# Altium schematic symbol library kmilo17pet-Maxim_Sensors.SchLib: 1172 symbols (part 40 of 61)
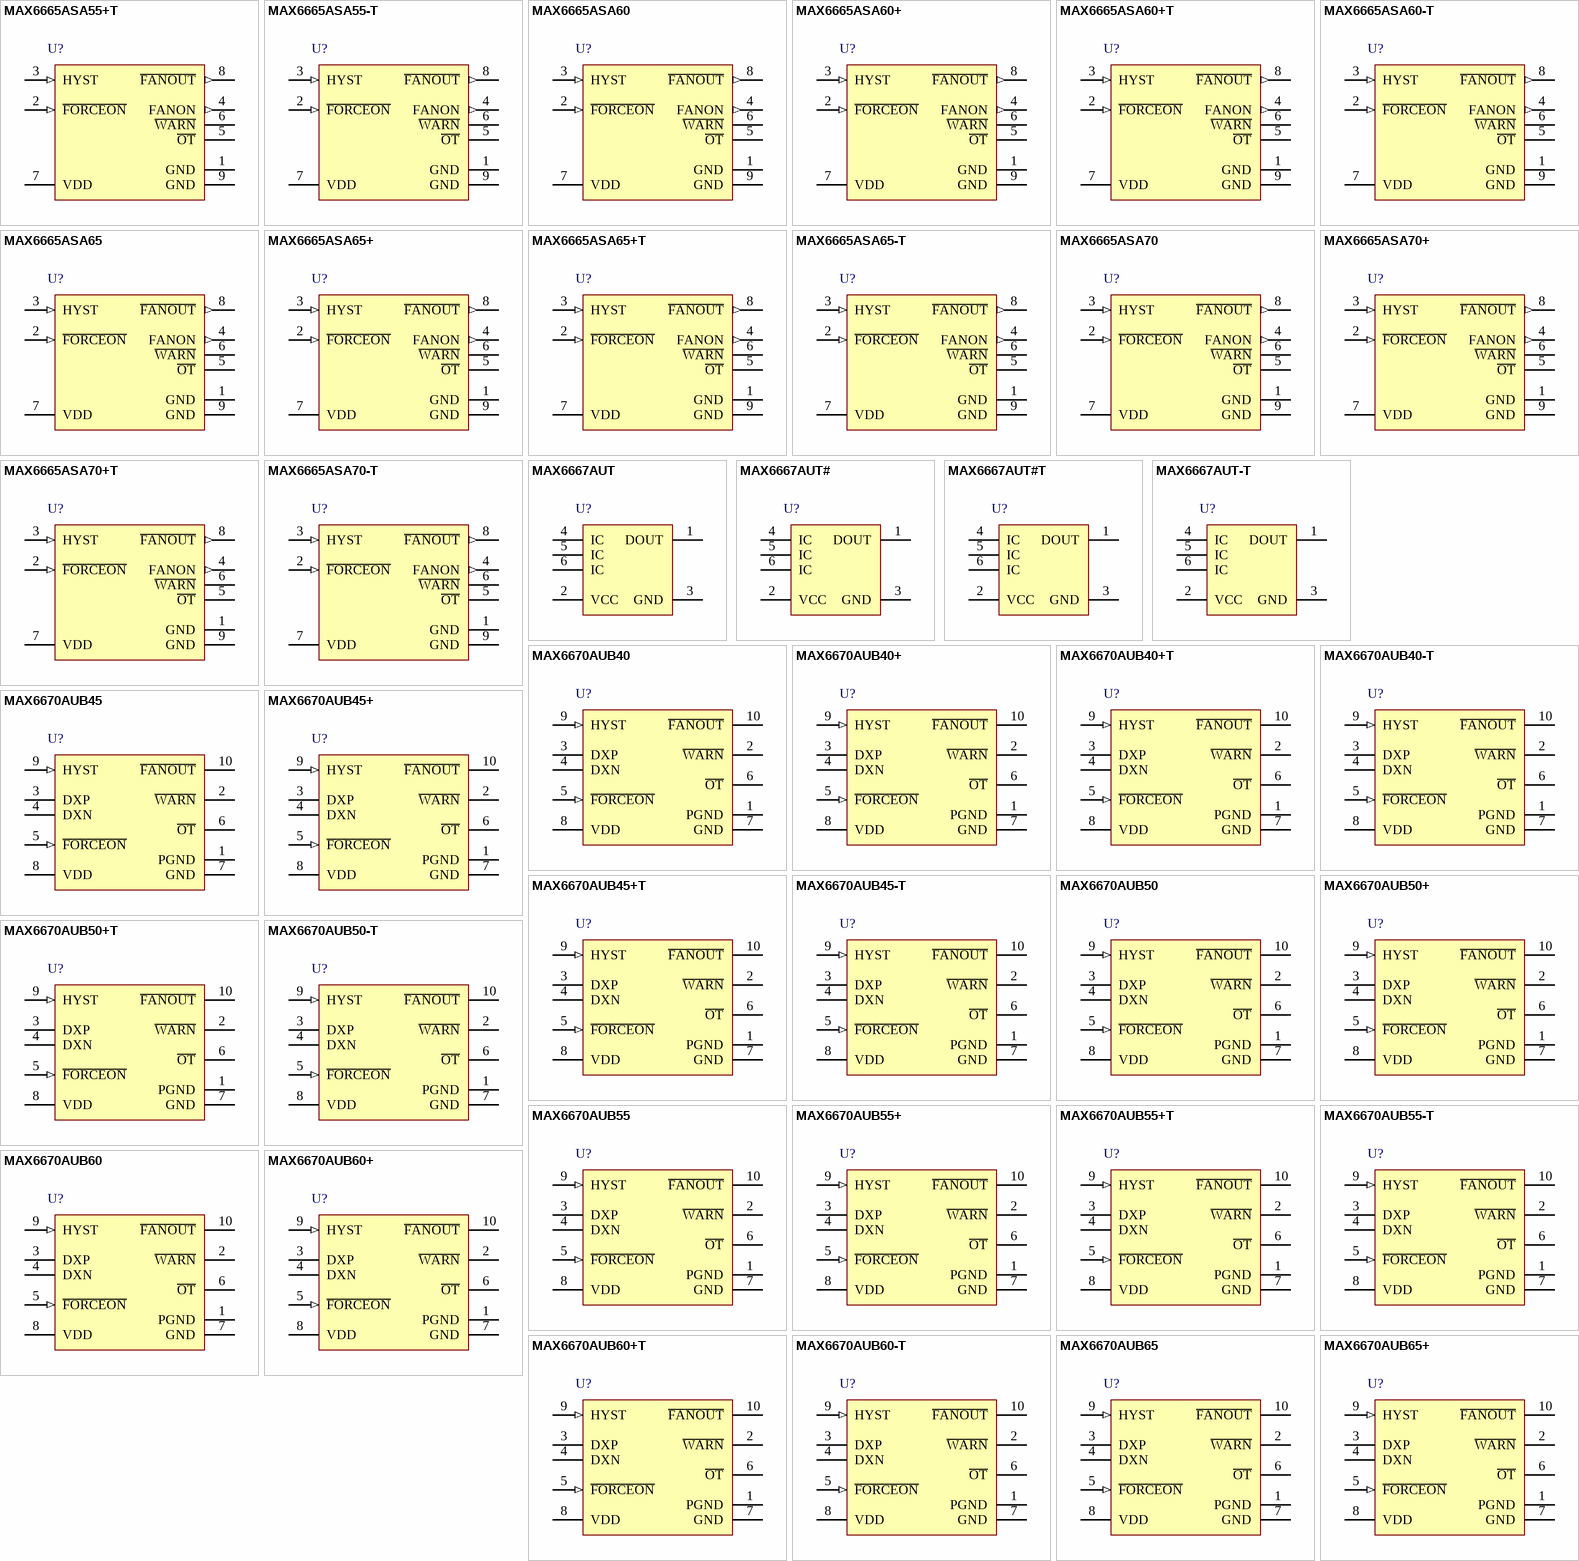
[diagram p72: symbols MAX6665ASA55+T to MAX6670AUB65+]

## MAX6670AUB50-T
designator U?
Remote Temperature Switch with Integrated Fan Driver, Bits Tempearture Resolution, -40 to 125 degC, 10-Pin SOP (U10CN-1), Tape and Reel; Generic Part Number: MAX6670; PartNumber: MAX6670AUB50-T; Fan Cntrl.: Linear; Fan Controller Functions: Temperature Switch/Temperature Comparator; Interface: Logic; DatasheetVersion: Rev. 2; PackageVersion: Rev. L, 07/2008; PackageReference: U10CN-1; PackageDescription: 10-Pin Micro-MAX, Thin Shrink Small-Outline (U10CN-1), Body 3 x 3 mm, Pitch 0.5 mm; Supplier 1: Mouser; Supplier Part Number 1: N/A; Packing: Tape and Reel; Mounting Technology: Surface Mount; Code_JEDEC: MO-187; ComponentLink1Description: Manufacturer URL; ComponentLink1URL: http://www.maximintegrated.com/; ComponentLink2Description: Datasheet; ComponentLink2URL: http://datasheets.maximintegrated.com/en/ds/MAX6668-MAX6670.pdf; ComponentLink3Description: Package Specification; ComponentLink3URL: http://pdfserv.maximintegrated.com/package_dwgs/21-0061.PDF
footprint MAXM-U10CN-1_N (SOP, 10-Leads, Body 3x3mm, Pitch 0.5mm, IPC Medium Density)
footprint MAXM-U10CN-1_L (SOP, 10-Leads, Body 3x3mm, Pitch 0.5mm, IPC High Density)
footprint MAXM-U10CN-1_M (SOP, 10-Leads, Body 3x3mm, Pitch 0.5mm, IPC Low Density)
pins: 1 PGND (power) "Power Ground. PGND is the power ground for the F\A\N\O\U\T\ power MOSFET switch.", 2 ~{WARN} (oc) "Temperature Warning Output. W\A\R\N\ is an open-drain output that goes low when the sensed junction temperature is 15degreesC higher than the fan trip threshold", 3 DXP "Current Source Positive Input. Connect to the anode of the external diodeconnected transistor. Do not leave DXP floating. Connect a 2200pF capacitor between DXP and DXN for noise filtering.", 4 DXN "Current Sink Negative Input. Connect to the cathode of the external diodeconnected transistor. DXN is internally biased to a diode voltage drop.", 5 ~{FORCEON} (in) "Fan-Control Input. Drive F\O\R\C\E\O\N\ high for normal operation. Drive F\O\R\C\E\O\N\ low to force fan on.", 6 ~{OT} (oc) "Overtemperature Output. O\T\ is an open-drain output that goes low when the sensed junction temperature is 30degC higher than the fan trip threshold.", 7 GND (power) "Ground", 8 VDD (power) "Positive Power Supply", 9 HYST (in) "Hysteresis Control Input. HYST is a three-level logic input for controlling the fandrive comparator’s hysteresis. Connect HYST to GND for 4degreesC hysteresis, to VDD for 12degreesC hysteresis, or leave floating for (See Datasheet)", 10 ~{FANOUT} (oc) "Fan-Drive Output. F\A\N\O\U\T\ is an open-drain power MOSFET that sinks up to 250mA current to turn on the fan when the sensed temperature exceeds the fan trip threshold or the fan is forced on by driving F\O\R\C\E\O\N\ low."

## MAX6670AUB55
designator U?
Remote Temperature Switch with Integrated Fan Driver, Bits Tempearture Resolution, -40 to 125 degC, 10-Pin SOP (U10CN-1); Generic Part Number: MAX6670; PartNumber: MAX6670AUB55; Fan Cntrl.: Linear; Fan Controller Functions: Temperature Switch/Temperature Comparator; Interface: Logic; DatasheetVersion: Rev. 2; PackageVersion: Rev. L, 07/2008; PackageReference: U10CN-1; PackageDescription: 10-Pin Micro-MAX, Thin Shrink Small-Outline (U10CN-1), Body 3 x 3 mm, Pitch 0.5 mm; Supplier 1: Mouser; Supplier Part Number 1: N/A; Mounting Technology: Surface Mount; Code_JEDEC: MO-187; ComponentLink1Description: Manufacturer URL; ComponentLink1URL: http://www.maximintegrated.com/; ComponentLink2Description: Datasheet; ComponentLink2URL: http://datasheets.maximintegrated.com/en/ds/MAX6668-MAX6670.pdf; ComponentLink3Description: Package Specification; ComponentLink3URL: http://pdfserv.maximintegrated.com/package_dwgs/21-0061.PDF
footprint MAXM-U10CN-1_N (SOP, 10-Leads, Body 3x3mm, Pitch 0.5mm, IPC Medium Density)
footprint MAXM-U10CN-1_L (SOP, 10-Leads, Body 3x3mm, Pitch 0.5mm, IPC High Density)
footprint MAXM-U10CN-1_M (SOP, 10-Leads, Body 3x3mm, Pitch 0.5mm, IPC Low Density)
pins: 1 PGND (power) "Power Ground. PGND is the power ground for the F\A\N\O\U\T\ power MOSFET switch.", 2 ~{WARN} (oc) "Temperature Warning Output. W\A\R\N\ is an open-drain output that goes low when the sensed junction temperature is 15degreesC higher than the fan trip threshold", 3 DXP "Current Source Positive Input. Connect to the anode of the external diodeconnected transistor. Do not leave DXP floating. Connect a 2200pF capacitor between DXP and DXN for noise filtering.", 4 DXN "Current Sink Negative Input. Connect to the cathode of the external diodeconnected transistor. DXN is internally biased to a diode voltage drop.", 5 ~{FORCEON} (in) "Fan-Control Input. Drive F\O\R\C\E\O\N\ high for normal operation. Drive F\O\R\C\E\O\N\ low to force fan on.", 6 ~{OT} (oc) "Overtemperature Output. O\T\ is an open-drain output that goes low when the sensed junction temperature is 30degC higher than the fan trip threshold.", 7 GND (power) "Ground", 8 VDD (power) "Positive Power Supply", 9 HYST (in) "Hysteresis Control Input. HYST is a three-level logic input for controlling the fandrive comparator’s hysteresis. Connect HYST to GND for 4degreesC hysteresis, to VDD for 12degreesC hysteresis, or leave floating for (See Datasheet)", 10 ~{FANOUT} (oc) "Fan-Drive Output. F\A\N\O\U\T\ is an open-drain power MOSFET that sinks up to 250mA current to turn on the fan when the sensed temperature exceeds the fan trip threshold or the fan is forced on by driving F\O\R\C\E\O\N\ low."

## MAX6670AUB55+
designator U?
Remote Temperature Switch with Integrated Fan Driver, Bits Tempearture Resolution, -40 to 125 degC, 10-Pin SOP (U10CN+1), Pb-Free; Generic Part Number: MAX6670; PartNumber: MAX6670AUB55+; Fan Cntrl.: Linear; Fan Controller Functions: Temperature Switch/Temperature Comparator; Interface: Logic; DatasheetVersion: Rev. 2; PackageVersion: Rev. L, 07/2008; PackageReference: U10CN+1; PackageDescription: 10-Pin Micro-MAX, Thin Shrink Small-Outline (U10CN+1), Body 3 x 3 mm, Pitch 0.5 mm; Supplier 1: Digi-Key; Supplier Part Number 1: MAX6670AUB55+-ND; Supplier 2: Mouser; Supplier Part Number 2: 700-MAX6670AUB55; Mounting Technology: Surface Mount; Code_JEDEC: MO-187; ComponentLink1Description: Manufacturer URL; ComponentLink1URL: http://www.maximintegrated.com/; ComponentLink2Description: Datasheet; ComponentLink2URL: http://datasheets.maximintegrated.com/en/ds/MAX6668-MAX6670.pdf; ComponentLink3Description: Package Specification; ComponentLink3URL: http://pdfserv.maximintegrated.com/package_dwgs/21-0061.PDF
footprint MAXM-U10CN+1_N (SOP, 10-Leads, Body 3x3mm, Pitch 0.5mm, IPC Medium Density)
footprint MAXM-U10CN+1_L (SOP, 10-Leads, Body 3x3mm, Pitch 0.5mm, IPC High Density)
footprint MAXM-U10CN+1_M (SOP, 10-Leads, Body 3x3mm, Pitch 0.5mm, IPC Low Density)
pins: 1 PGND (power) "Power Ground. PGND is the power ground for the F\A\N\O\U\T\ power MOSFET switch.", 2 ~{WARN} (oc) "Temperature Warning Output. W\A\R\N\ is an open-drain output that goes low when the sensed junction temperature is 15degreesC higher than the fan trip threshold", 3 DXP "Current Source Positive Input. Connect to the anode of the external diodeconnected transistor. Do not leave DXP floating. Connect a 2200pF capacitor between DXP and DXN for noise filtering.", 4 DXN "Current Sink Negative Input. Connect to the cathode of the external diodeconnected transistor. DXN is internally biased to a diode voltage drop.", 5 ~{FORCEON} (in) "Fan-Control Input. Drive F\O\R\C\E\O\N\ high for normal operation. Drive F\O\R\C\E\O\N\ low to force fan on.", 6 ~{OT} (oc) "Overtemperature Output. O\T\ is an open-drain output that goes low when the sensed junction temperature is 30degC higher than the fan trip threshold.", 7 GND (power) "Ground", 8 VDD (power) "Positive Power Supply", 9 HYST (in) "Hysteresis Control Input. HYST is a three-level logic input for controlling the fandrive comparator’s hysteresis. Connect HYST to GND for 4degreesC hysteresis, to VDD for 12degreesC hysteresis, or leave floating for (See Datasheet)", 10 ~{FANOUT} (oc) "Fan-Drive Output. F\A\N\O\U\T\ is an open-drain power MOSFET that sinks up to 250mA current to turn on the fan when the sensed temperature exceeds the fan trip threshold or the fan is forced on by driving F\O\R\C\E\O\N\ low."

## MAX6670AUB55+T
designator U?
Remote Temperature Switch with Integrated Fan Driver, Bits Tempearture Resolution, -40 to 125 degC, 10-Pin SOP (U10CN+1), Pb-Free, Tape and Reel; Generic Part Number: MAX6670; PartNumber: MAX6670AUB55+T; Fan Cntrl.: Linear; Fan Controller Functions: Temperature Switch/Temperature Comparator; Interface: Logic; DatasheetVersion: Rev. 2; PackageVersion: Rev. L, 07/2008; PackageReference: U10CN+1; PackageDescription: 10-Pin Micro-MAX, Thin Shrink Small-Outline (U10CN+1), Body 3 x 3 mm, Pitch 0.5 mm; Supplier 1: Digi-Key; Supplier Part Number 1: MAX6670AUB55+T-ND; Supplier 2: Mouser; Supplier Part Number 2: 700-MAX6670AUB55T; Packing: Tape and Reel; Mounting Technology: Surface Mount; Code_JEDEC: MO-187; ComponentLink1Description: Manufacturer URL; ComponentLink1URL: http://www.maximintegrated.com/; ComponentLink2Description: Datasheet; ComponentLink2URL: http://datasheets.maximintegrated.com/en/ds/MAX6668-MAX6670.pdf; ComponentLink3Description: Package Specification; ComponentLink3URL: http://pdfserv.maximintegrated.com/package_dwgs/21-0061.PDF
footprint MAXM-U10CN+1_N (SOP, 10-Leads, Body 3x3mm, Pitch 0.5mm, IPC Medium Density)
footprint MAXM-U10CN+1_L (SOP, 10-Leads, Body 3x3mm, Pitch 0.5mm, IPC High Density)
footprint MAXM-U10CN+1_M (SOP, 10-Leads, Body 3x3mm, Pitch 0.5mm, IPC Low Density)
pins: 1 PGND (power) "Power Ground. PGND is the power ground for the F\A\N\O\U\T\ power MOSFET switch.", 2 ~{WARN} (oc) "Temperature Warning Output. W\A\R\N\ is an open-drain output that goes low when the sensed junction temperature is 15degreesC higher than the fan trip threshold", 3 DXP "Current Source Positive Input. Connect to the anode of the external diodeconnected transistor. Do not leave DXP floating. Connect a 2200pF capacitor between DXP and DXN for noise filtering.", 4 DXN "Current Sink Negative Input. Connect to the cathode of the external diodeconnected transistor. DXN is internally biased to a diode voltage drop.", 5 ~{FORCEON} (in) "Fan-Control Input. Drive F\O\R\C\E\O\N\ high for normal operation. Drive F\O\R\C\E\O\N\ low to force fan on.", 6 ~{OT} (oc) "Overtemperature Output. O\T\ is an open-drain output that goes low when the sensed junction temperature is 30degC higher than the fan trip threshold.", 7 GND (power) "Ground", 8 VDD (power) "Positive Power Supply", 9 HYST (in) "Hysteresis Control Input. HYST is a three-level logic input for controlling the fandrive comparator’s hysteresis. Connect HYST to GND for 4degreesC hysteresis, to VDD for 12degreesC hysteresis, or leave floating for (See Datasheet)", 10 ~{FANOUT} (oc) "Fan-Drive Output. F\A\N\O\U\T\ is an open-drain power MOSFET that sinks up to 250mA current to turn on the fan when the sensed temperature exceeds the fan trip threshold or the fan is forced on by driving F\O\R\C\E\O\N\ low."

## MAX6670AUB55-T
designator U?
Remote Temperature Switch with Integrated Fan Driver, Bits Tempearture Resolution, -40 to 125 degC, 10-Pin SOP (U10CN-1), Tape and Reel; Generic Part Number: MAX6670; PartNumber: MAX6670AUB55-T; Fan Cntrl.: Linear; Fan Controller Functions: Temperature Switch/Temperature Comparator; Interface: Logic; DatasheetVersion: Rev. 2; PackageVersion: Rev. L, 07/2008; PackageReference: U10CN-1; PackageDescription: 10-Pin Micro-MAX, Thin Shrink Small-Outline (U10CN-1), Body 3 x 3 mm, Pitch 0.5 mm; Supplier 1: Mouser; Supplier Part Number 1: N/A; Packing: Tape and Reel; Mounting Technology: Surface Mount; Code_JEDEC: MO-187; ComponentLink1Description: Manufacturer URL; ComponentLink1URL: http://www.maximintegrated.com/; ComponentLink2Description: Datasheet; ComponentLink2URL: http://datasheets.maximintegrated.com/en/ds/MAX6668-MAX6670.pdf; ComponentLink3Description: Package Specification; ComponentLink3URL: http://pdfserv.maximintegrated.com/package_dwgs/21-0061.PDF
footprint MAXM-U10CN-1_N (SOP, 10-Leads, Body 3x3mm, Pitch 0.5mm, IPC Medium Density)
footprint MAXM-U10CN-1_L (SOP, 10-Leads, Body 3x3mm, Pitch 0.5mm, IPC High Density)
footprint MAXM-U10CN-1_M (SOP, 10-Leads, Body 3x3mm, Pitch 0.5mm, IPC Low Density)
pins: 1 PGND (power) "Power Ground. PGND is the power ground for the F\A\N\O\U\T\ power MOSFET switch.", 2 ~{WARN} (oc) "Temperature Warning Output. W\A\R\N\ is an open-drain output that goes low when the sensed junction temperature is 15degreesC higher than the fan trip threshold", 3 DXP "Current Source Positive Input. Connect to the anode of the external diodeconnected transistor. Do not leave DXP floating. Connect a 2200pF capacitor between DXP and DXN for noise filtering.", 4 DXN "Current Sink Negative Input. Connect to the cathode of the external diodeconnected transistor. DXN is internally biased to a diode voltage drop.", 5 ~{FORCEON} (in) "Fan-Control Input. Drive F\O\R\C\E\O\N\ high for normal operation. Drive F\O\R\C\E\O\N\ low to force fan on.", 6 ~{OT} (oc) "Overtemperature Output. O\T\ is an open-drain output that goes low when the sensed junction temperature is 30degC higher than the fan trip threshold.", 7 GND (power) "Ground", 8 VDD (power) "Positive Power Supply", 9 HYST (in) "Hysteresis Control Input. HYST is a three-level logic input for controlling the fandrive comparator’s hysteresis. Connect HYST to GND for 4degreesC hysteresis, to VDD for 12degreesC hysteresis, or leave floating for (See Datasheet)", 10 ~{FANOUT} (oc) "Fan-Drive Output. F\A\N\O\U\T\ is an open-drain power MOSFET that sinks up to 250mA current to turn on the fan when the sensed temperature exceeds the fan trip threshold or the fan is forced on by driving F\O\R\C\E\O\N\ low."

## MAX6670AUB60
designator U?
Remote Temperature Switch with Integrated Fan Driver, Bits Tempearture Resolution, -40 to 125 degC, 10-Pin SOP (U10CN-1); Generic Part Number: MAX6670; PartNumber: MAX6670AUB60; Fan Cntrl.: Linear; Fan Controller Functions: Temperature Switch/Temperature Comparator; Interface: Logic; DatasheetVersion: Rev. 2; PackageVersion: Rev. L, 07/2008; PackageReference: U10CN-1; PackageDescription: 10-Pin Micro-MAX, Thin Shrink Small-Outline (U10CN-1), Body 3 x 3 mm, Pitch 0.5 mm; Supplier 1: Mouser; Supplier Part Number 1: N/A; Mounting Technology: Surface Mount; Code_JEDEC: MO-187; ComponentLink1Description: Manufacturer URL; ComponentLink1URL: http://www.maximintegrated.com/; ComponentLink2Description: Datasheet; ComponentLink2URL: http://datasheets.maximintegrated.com/en/ds/MAX6668-MAX6670.pdf; ComponentLink3Description: Package Specification; ComponentLink3URL: http://pdfserv.maximintegrated.com/package_dwgs/21-0061.PDF
footprint MAXM-U10CN-1_N (SOP, 10-Leads, Body 3x3mm, Pitch 0.5mm, IPC Medium Density)
footprint MAXM-U10CN-1_L (SOP, 10-Leads, Body 3x3mm, Pitch 0.5mm, IPC High Density)
footprint MAXM-U10CN-1_M (SOP, 10-Leads, Body 3x3mm, Pitch 0.5mm, IPC Low Density)
pins: 1 PGND (power) "Power Ground. PGND is the power ground for the F\A\N\O\U\T\ power MOSFET switch.", 2 ~{WARN} (oc) "Temperature Warning Output. W\A\R\N\ is an open-drain output that goes low when the sensed junction temperature is 15degreesC higher than the fan trip threshold", 3 DXP "Current Source Positive Input. Connect to the anode of the external diodeconnected transistor. Do not leave DXP floating. Connect a 2200pF capacitor between DXP and DXN for noise filtering.", 4 DXN "Current Sink Negative Input. Connect to the cathode of the external diodeconnected transistor. DXN is internally biased to a diode voltage drop.", 5 ~{FORCEON} (in) "Fan-Control Input. Drive F\O\R\C\E\O\N\ high for normal operation. Drive F\O\R\C\E\O\N\ low to force fan on.", 6 ~{OT} (oc) "Overtemperature Output. O\T\ is an open-drain output that goes low when the sensed junction temperature is 30degC higher than the fan trip threshold.", 7 GND (power) "Ground", 8 VDD (power) "Positive Power Supply", 9 HYST (in) "Hysteresis Control Input. HYST is a three-level logic input for controlling the fandrive comparator’s hysteresis. Connect HYST to GND for 4degreesC hysteresis, to VDD for 12degreesC hysteresis, or leave floating for (See Datasheet)", 10 ~{FANOUT} (oc) "Fan-Drive Output. F\A\N\O\U\T\ is an open-drain power MOSFET that sinks up to 250mA current to turn on the fan when the sensed temperature exceeds the fan trip threshold or the fan is forced on by driving F\O\R\C\E\O\N\ low."

## MAX6670AUB60+
designator U?
Remote Temperature Switch with Integrated Fan Driver, Bits Tempearture Resolution, -40 to 125 degC, 10-Pin SOP (U10CN+1), Pb-Free; Generic Part Number: MAX6670; PartNumber: MAX6670AUB60+; Fan Cntrl.: Linear; Fan Controller Functions: Temperature Switch/Temperature Comparator; Interface: Logic; DatasheetVersion: Rev. 2; PackageVersion: Rev. L, 07/2008; PackageReference: U10CN+1; PackageDescription: 10-Pin Micro-MAX, Thin Shrink Small-Outline (U10CN+1), Body 3 x 3 mm, Pitch 0.5 mm; Supplier 1: Digi-Key; Supplier Part Number 1: MAX6670AUB60+-ND; Supplier 2: Mouser; Supplier Part Number 2: 700-MAX6670AUB60; Mounting Technology: Surface Mount; Code_JEDEC: MO-187; ComponentLink1Description: Manufacturer URL; ComponentLink1URL: http://www.maximintegrated.com/; ComponentLink2Description: Datasheet; ComponentLink2URL: http://datasheets.maximintegrated.com/en/ds/MAX6668-MAX6670.pdf; ComponentLink3Description: Package Specification; ComponentLink3URL: http://pdfserv.maximintegrated.com/package_dwgs/21-0061.PDF
footprint MAXM-U10CN+1_N (SOP, 10-Leads, Body 3x3mm, Pitch 0.5mm, IPC Medium Density)
footprint MAXM-U10CN+1_L (SOP, 10-Leads, Body 3x3mm, Pitch 0.5mm, IPC High Density)
footprint MAXM-U10CN+1_M (SOP, 10-Leads, Body 3x3mm, Pitch 0.5mm, IPC Low Density)
pins: 1 PGND (power) "Power Ground. PGND is the power ground for the F\A\N\O\U\T\ power MOSFET switch.", 2 ~{WARN} (oc) "Temperature Warning Output. W\A\R\N\ is an open-drain output that goes low when the sensed junction temperature is 15degreesC higher than the fan trip threshold", 3 DXP "Current Source Positive Input. Connect to the anode of the external diodeconnected transistor. Do not leave DXP floating. Connect a 2200pF capacitor between DXP and DXN for noise filtering.", 4 DXN "Current Sink Negative Input. Connect to the cathode of the external diodeconnected transistor. DXN is internally biased to a diode voltage drop.", 5 ~{FORCEON} (in) "Fan-Control Input. Drive F\O\R\C\E\O\N\ high for normal operation. Drive F\O\R\C\E\O\N\ low to force fan on.", 6 ~{OT} (oc) "Overtemperature Output. O\T\ is an open-drain output that goes low when the sensed junction temperature is 30degC higher than the fan trip threshold.", 7 GND (power) "Ground", 8 VDD (power) "Positive Power Supply", 9 HYST (in) "Hysteresis Control Input. HYST is a three-level logic input for controlling the fandrive comparator’s hysteresis. Connect HYST to GND for 4degreesC hysteresis, to VDD for 12degreesC hysteresis, or leave floating for (See Datasheet)", 10 ~{FANOUT} (oc) "Fan-Drive Output. F\A\N\O\U\T\ is an open-drain power MOSFET that sinks up to 250mA current to turn on the fan when the sensed temperature exceeds the fan trip threshold or the fan is forced on by driving F\O\R\C\E\O\N\ low."

## MAX6670AUB60+T
designator U?
Remote Temperature Switch with Integrated Fan Driver, Bits Tempearture Resolution, -40 to 125 degC, 10-Pin SOP (U10CN+1), Pb-Free, Tape and Reel; Generic Part Number: MAX6670; PartNumber: MAX6670AUB60+T; Fan Cntrl.: Linear; Fan Controller Functions: Temperature Switch/Temperature Comparator; Interface: Logic; DatasheetVersion: Rev. 2; PackageVersion: Rev. L, 07/2008; PackageReference: U10CN+1; PackageDescription: 10-Pin Micro-MAX, Thin Shrink Small-Outline (U10CN+1), Body 3 x 3 mm, Pitch 0.5 mm; Supplier 1: Digi-Key; Supplier Part Number 1: MAX6670AUB60+T-ND; Supplier 2: Mouser; Supplier Part Number 2: 700-MAX6670AUB60T; Packing: Tape and Reel; Mounting Technology: Surface Mount; Code_JEDEC: MO-187; ComponentLink1Description: Manufacturer URL; ComponentLink1URL: http://www.maximintegrated.com/; ComponentLink2Description: Datasheet; ComponentLink2URL: http://datasheets.maximintegrated.com/en/ds/MAX6668-MAX6670.pdf; ComponentLink3Description: Package Specification; ComponentLink3URL: http://pdfserv.maximintegrated.com/package_dwgs/21-0061.PDF
footprint MAXM-U10CN+1_N (SOP, 10-Leads, Body 3x3mm, Pitch 0.5mm, IPC Medium Density)
footprint MAXM-U10CN+1_L (SOP, 10-Leads, Body 3x3mm, Pitch 0.5mm, IPC High Density)
footprint MAXM-U10CN+1_M (SOP, 10-Leads, Body 3x3mm, Pitch 0.5mm, IPC Low Density)
pins: 1 PGND (power) "Power Ground. PGND is the power ground for the F\A\N\O\U\T\ power MOSFET switch.", 2 ~{WARN} (oc) "Temperature Warning Output. W\A\R\N\ is an open-drain output that goes low when the sensed junction temperature is 15degreesC higher than the fan trip threshold", 3 DXP "Current Source Positive Input. Connect to the anode of the external diodeconnected transistor. Do not leave DXP floating. Connect a 2200pF capacitor between DXP and DXN for noise filtering.", 4 DXN "Current Sink Negative Input. Connect to the cathode of the external diodeconnected transistor. DXN is internally biased to a diode voltage drop.", 5 ~{FORCEON} (in) "Fan-Control Input. Drive F\O\R\C\E\O\N\ high for normal operation. Drive F\O\R\C\E\O\N\ low to force fan on.", 6 ~{OT} (oc) "Overtemperature Output. O\T\ is an open-drain output that goes low when the sensed junction temperature is 30degC higher than the fan trip threshold.", 7 GND (power) "Ground", 8 VDD (power) "Positive Power Supply", 9 HYST (in) "Hysteresis Control Input. HYST is a three-level logic input for controlling the fandrive comparator’s hysteresis. Connect HYST to GND for 4degreesC hysteresis, to VDD for 12degreesC hysteresis, or leave floating for (See Datasheet)", 10 ~{FANOUT} (oc) "Fan-Drive Output. F\A\N\O\U\T\ is an open-drain power MOSFET that sinks up to 250mA current to turn on the fan when the sensed temperature exceeds the fan trip threshold or the fan is forced on by driving F\O\R\C\E\O\N\ low."

## MAX6670AUB60-T
designator U?
Remote Temperature Switch with Integrated Fan Driver, Bits Tempearture Resolution, -40 to 125 degC, 10-Pin SOP (U10CN-1), Tape and Reel; Generic Part Number: MAX6670; PartNumber: MAX6670AUB60-T; Fan Cntrl.: Linear; Fan Controller Functions: Temperature Switch/Temperature Comparator; Interface: Logic; DatasheetVersion: Rev. 2; PackageVersion: Rev. L, 07/2008; PackageReference: U10CN-1; PackageDescription: 10-Pin Micro-MAX, Thin Shrink Small-Outline (U10CN-1), Body 3 x 3 mm, Pitch 0.5 mm; Supplier 1: Mouser; Supplier Part Number 1: N/A; Packing: Tape and Reel; Mounting Technology: Surface Mount; Code_JEDEC: MO-187; ComponentLink1Description: Manufacturer URL; ComponentLink1URL: http://www.maximintegrated.com/; ComponentLink2Description: Datasheet; ComponentLink2URL: http://datasheets.maximintegrated.com/en/ds/MAX6668-MAX6670.pdf; ComponentLink3Description: Package Specification; ComponentLink3URL: http://pdfserv.maximintegrated.com/package_dwgs/21-0061.PDF
footprint MAXM-U10CN-1_N (SOP, 10-Leads, Body 3x3mm, Pitch 0.5mm, IPC Medium Density)
footprint MAXM-U10CN-1_L (SOP, 10-Leads, Body 3x3mm, Pitch 0.5mm, IPC High Density)
footprint MAXM-U10CN-1_M (SOP, 10-Leads, Body 3x3mm, Pitch 0.5mm, IPC Low Density)
pins: 1 PGND (power) "Power Ground. PGND is the power ground for the F\A\N\O\U\T\ power MOSFET switch.", 2 ~{WARN} (oc) "Temperature Warning Output. W\A\R\N\ is an open-drain output that goes low when the sensed junction temperature is 15degreesC higher than the fan trip threshold", 3 DXP "Current Source Positive Input. Connect to the anode of the external diodeconnected transistor. Do not leave DXP floating. Connect a 2200pF capacitor between DXP and DXN for noise filtering.", 4 DXN "Current Sink Negative Input. Connect to the cathode of the external diodeconnected transistor. DXN is internally biased to a diode voltage drop.", 5 ~{FORCEON} (in) "Fan-Control Input. Drive F\O\R\C\E\O\N\ high for normal operation. Drive F\O\R\C\E\O\N\ low to force fan on.", 6 ~{OT} (oc) "Overtemperature Output. O\T\ is an open-drain output that goes low when the sensed junction temperature is 30degC higher than the fan trip threshold.", 7 GND (power) "Ground", 8 VDD (power) "Positive Power Supply", 9 HYST (in) "Hysteresis Control Input. HYST is a three-level logic input for controlling the fandrive comparator’s hysteresis. Connect HYST to GND for 4degreesC hysteresis, to VDD for 12degreesC hysteresis, or leave floating for (See Datasheet)", 10 ~{FANOUT} (oc) "Fan-Drive Output. F\A\N\O\U\T\ is an open-drain power MOSFET that sinks up to 250mA current to turn on the fan when the sensed temperature exceeds the fan trip threshold or the fan is forced on by driving F\O\R\C\E\O\N\ low."

## MAX6670AUB65
designator U?
Remote Temperature Switch with Integrated Fan Driver, Bits Tempearture Resolution, -40 to 125 degC, 10-Pin SOP (U10CN-1); Generic Part Number: MAX6670; PartNumber: MAX6670AUB65; Fan Cntrl.: Linear; Fan Controller Functions: Temperature Switch/Temperature Comparator; Interface: Logic; DatasheetVersion: Rev. 2; PackageVersion: Rev. L, 07/2008; PackageReference: U10CN-1; PackageDescription: 10-Pin Micro-MAX, Thin Shrink Small-Outline (U10CN-1), Body 3 x 3 mm, Pitch 0.5 mm; Supplier 1: Mouser; Supplier Part Number 1: N/A; Mounting Technology: Surface Mount; Code_JEDEC: MO-187; ComponentLink1Description: Manufacturer URL; ComponentLink1URL: http://www.maximintegrated.com/; ComponentLink2Description: Datasheet; ComponentLink2URL: http://datasheets.maximintegrated.com/en/ds/MAX6668-MAX6670.pdf; ComponentLink3Description: Package Specification; ComponentLink3URL: http://pdfserv.maximintegrated.com/package_dwgs/21-0061.PDF
footprint MAXM-U10CN-1_N (SOP, 10-Leads, Body 3x3mm, Pitch 0.5mm, IPC Medium Density)
footprint MAXM-U10CN-1_L (SOP, 10-Leads, Body 3x3mm, Pitch 0.5mm, IPC High Density)
footprint MAXM-U10CN-1_M (SOP, 10-Leads, Body 3x3mm, Pitch 0.5mm, IPC Low Density)
pins: 1 PGND (power) "Power Ground. PGND is the power ground for the F\A\N\O\U\T\ power MOSFET switch.", 2 ~{WARN} (oc) "Temperature Warning Output. W\A\R\N\ is an open-drain output that goes low when the sensed junction temperature is 15degreesC higher than the fan trip threshold", 3 DXP "Current Source Positive Input. Connect to the anode of the external diodeconnected transistor. Do not leave DXP floating. Connect a 2200pF capacitor between DXP and DXN for noise filtering.", 4 DXN "Current Sink Negative Input. Connect to the cathode of the external diodeconnected transistor. DXN is internally biased to a diode voltage drop.", 5 ~{FORCEON} (in) "Fan-Control Input. Drive F\O\R\C\E\O\N\ high for normal operation. Drive F\O\R\C\E\O\N\ low to force fan on.", 6 ~{OT} (oc) "Overtemperature Output. O\T\ is an open-drain output that goes low when the sensed junction temperature is 30degC higher than the fan trip threshold.", 7 GND (power) "Ground", 8 VDD (power) "Positive Power Supply", 9 HYST (in) "Hysteresis Control Input. HYST is a three-level logic input for controlling the fandrive comparator’s hysteresis. Connect HYST to GND for 4degreesC hysteresis, to VDD for 12degreesC hysteresis, or leave floating for (See Datasheet)", 10 ~{FANOUT} (oc) "Fan-Drive Output. F\A\N\O\U\T\ is an open-drain power MOSFET that sinks up to 250mA current to turn on the fan when the sensed temperature exceeds the fan trip threshold or the fan is forced on by driving F\O\R\C\E\O\N\ low."

## MAX6670AUB65+
designator U?
Remote Temperature Switch with Integrated Fan Driver, Bits Tempearture Resolution, -40 to 125 degC, 10-Pin SOP (U10CN+1), Pb-Free; Generic Part Number: MAX6670; PartNumber: MAX6670AUB65+; Fan Cntrl.: Linear; Fan Controller Functions: Temperature Switch/Temperature Comparator; Interface: Logic; DatasheetVersion: Rev. 2; PackageVersion: Rev. L, 07/2008; PackageReference: U10CN+1; PackageDescription: 10-Pin Micro-MAX, Thin Shrink Small-Outline (U10CN+1), Body 3 x 3 mm, Pitch 0.5 mm; Supplier 1: Digi-Key; Supplier Part Number 1: MAX6670AUB65+-ND; Supplier 2: Mouser; Supplier Part Number 2: 700-MAX6670AUB65; Mounting Technology: Surface Mount; Code_JEDEC: MO-187; ComponentLink1Description: Manufacturer URL; ComponentLink1URL: http://www.maximintegrated.com/; ComponentLink2Description: Datasheet; ComponentLink2URL: http://datasheets.maximintegrated.com/en/ds/MAX6668-MAX6670.pdf; ComponentLink3Description: Package Specification; ComponentLink3URL: http://pdfserv.maximintegrated.com/package_dwgs/21-0061.PDF
footprint MAXM-U10CN+1_N (SOP, 10-Leads, Body 3x3mm, Pitch 0.5mm, IPC Medium Density)
footprint MAXM-U10CN+1_L (SOP, 10-Leads, Body 3x3mm, Pitch 0.5mm, IPC High Density)
footprint MAXM-U10CN+1_M (SOP, 10-Leads, Body 3x3mm, Pitch 0.5mm, IPC Low Density)
pins: 1 PGND (power) "Power Ground. PGND is the power ground for the F\A\N\O\U\T\ power MOSFET switch.", 2 ~{WARN} (oc) "Temperature Warning Output. W\A\R\N\ is an open-drain output that goes low when the sensed junction temperature is 15degreesC higher than the fan trip threshold", 3 DXP "Current Source Positive Input. Connect to the anode of the external diodeconnected transistor. Do not leave DXP floating. Connect a 2200pF capacitor between DXP and DXN for noise filtering.", 4 DXN "Current Sink Negative Input. Connect to the cathode of the external diodeconnected transistor. DXN is internally biased to a diode voltage drop.", 5 ~{FORCEON} (in) "Fan-Control Input. Drive F\O\R\C\E\O\N\ high for normal operation. Drive F\O\R\C\E\O\N\ low to force fan on.", 6 ~{OT} (oc) "Overtemperature Output. O\T\ is an open-drain output that goes low when the sensed junction temperature is 30degC higher than the fan trip threshold.", 7 GND (power) "Ground", 8 VDD (power) "Positive Power Supply", 9 HYST (in) "Hysteresis Control Input. HYST is a three-level logic input for controlling the fandrive comparator’s hysteresis. Connect HYST to GND for 4degreesC hysteresis, to VDD for 12degreesC hysteresis, or leave floating for (See Datasheet)", 10 ~{FANOUT} (oc) "Fan-Drive Output. F\A\N\O\U\T\ is an open-drain power MOSFET that sinks up to 250mA current to turn on the fan when the sensed temperature exceeds the fan trip threshold or the fan is forced on by driving F\O\R\C\E\O\N\ low."

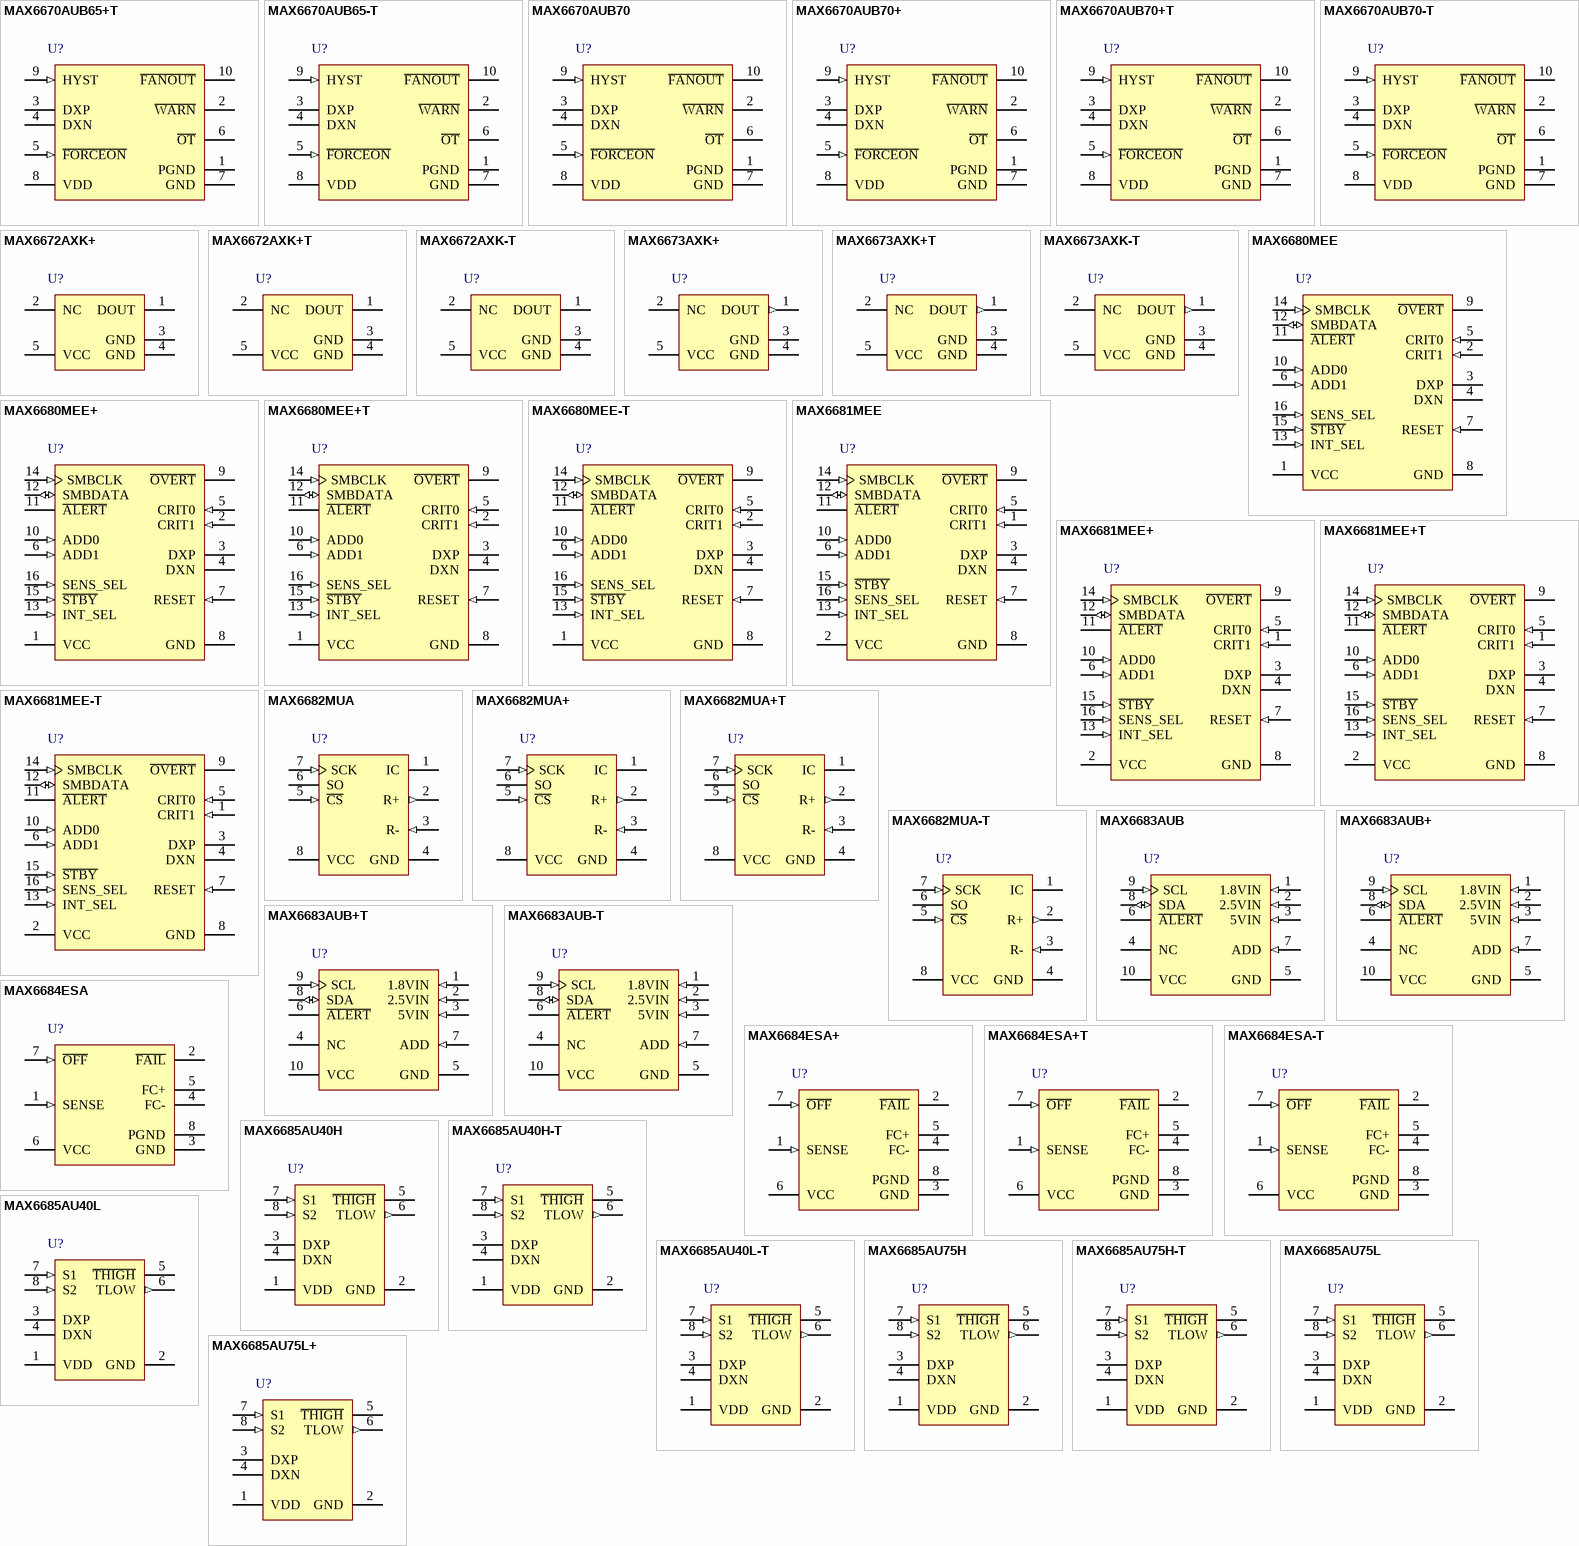
[diagram p23: symbols MAX6670AUB65+T to MAX6685AU75L+]

## MAX6670AUB65+T
designator U?
Remote Temperature Switch with Integrated Fan Driver, Bits Tempearture Resolution, -40 to 125 degC, 10-Pin SOP (U10CN+1), Pb-Free, Tape and Reel; Generic Part Number: MAX6670; PartNumber: MAX6670AUB65+T; Fan Cntrl.: Linear; Fan Controller Functions: Temperature Switch/Temperature Comparator; Interface: Logic; DatasheetVersion: Rev. 2; PackageVersion: Rev. L, 07/2008; PackageReference: U10CN+1; PackageDescription: 10-Pin Micro-MAX, Thin Shrink Small-Outline (U10CN+1), Body 3 x 3 mm, Pitch 0.5 mm; Supplier 1: Digi-Key; Supplier Part Number 1: MAX6670AUB65+T-ND; Supplier 2: Mouser; Supplier Part Number 2: 700-MAX6670AUB65T; Packing: Tape and Reel; Mounting Technology: Surface Mount; Code_JEDEC: MO-187; ComponentLink1Description: Manufacturer URL; ComponentLink1URL: http://www.maximintegrated.com/; ComponentLink2Description: Datasheet; ComponentLink2URL: http://datasheets.maximintegrated.com/en/ds/MAX6668-MAX6670.pdf; ComponentLink3Description: Package Specification; ComponentLink3URL: http://pdfserv.maximintegrated.com/package_dwgs/21-0061.PDF
footprint MAXM-U10CN+1_N (SOP, 10-Leads, Body 3x3mm, Pitch 0.5mm, IPC Medium Density)
footprint MAXM-U10CN+1_L (SOP, 10-Leads, Body 3x3mm, Pitch 0.5mm, IPC High Density)
footprint MAXM-U10CN+1_M (SOP, 10-Leads, Body 3x3mm, Pitch 0.5mm, IPC Low Density)
pins: 1 PGND (power) "Power Ground. PGND is the power ground for the F\A\N\O\U\T\ power MOSFET switch.", 2 ~{WARN} (oc) "Temperature Warning Output. W\A\R\N\ is an open-drain output that goes low when the sensed junction temperature is 15degreesC higher than the fan trip threshold", 3 DXP "Current Source Positive Input. Connect to the anode of the external diodeconnected transistor. Do not leave DXP floating. Connect a 2200pF capacitor between DXP and DXN for noise filtering.", 4 DXN "Current Sink Negative Input. Connect to the cathode of the external diodeconnected transistor. DXN is internally biased to a diode voltage drop.", 5 ~{FORCEON} (in) "Fan-Control Input. Drive F\O\R\C\E\O\N\ high for normal operation. Drive F\O\R\C\E\O\N\ low to force fan on.", 6 ~{OT} (oc) "Overtemperature Output. O\T\ is an open-drain output that goes low when the sensed junction temperature is 30degC higher than the fan trip threshold.", 7 GND (power) "Ground", 8 VDD (power) "Positive Power Supply", 9 HYST (in) "Hysteresis Control Input. HYST is a three-level logic input for controlling the fandrive comparator’s hysteresis. Connect HYST to GND for 4degreesC hysteresis, to VDD for 12degreesC hysteresis, or leave floating for (See Datasheet)", 10 ~{FANOUT} (oc) "Fan-Drive Output. F\A\N\O\U\T\ is an open-drain power MOSFET that sinks up to 250mA current to turn on the fan when the sensed temperature exceeds the fan trip threshold or the fan is forced on by driving F\O\R\C\E\O\N\ low."

## MAX6670AUB65-T
designator U?
Remote Temperature Switch with Integrated Fan Driver, Bits Tempearture Resolution, -40 to 125 degC, 10-Pin SOP (U10CN-1), Tape and Reel; Generic Part Number: MAX6670; PartNumber: MAX6670AUB65-T; Fan Cntrl.: Linear; Fan Controller Functions: Temperature Switch/Temperature Comparator; Interface: Logic; DatasheetVersion: Rev. 2; PackageVersion: Rev. L, 07/2008; PackageReference: U10CN-1; PackageDescription: 10-Pin Micro-MAX, Thin Shrink Small-Outline (U10CN-1), Body 3 x 3 mm, Pitch 0.5 mm; Supplier 1: Mouser; Supplier Part Number 1: N/A; Packing: Tape and Reel; Mounting Technology: Surface Mount; Code_JEDEC: MO-187; ComponentLink1Description: Manufacturer URL; ComponentLink1URL: http://www.maximintegrated.com/; ComponentLink2Description: Datasheet; ComponentLink2URL: http://datasheets.maximintegrated.com/en/ds/MAX6668-MAX6670.pdf; ComponentLink3Description: Package Specification; ComponentLink3URL: http://pdfserv.maximintegrated.com/package_dwgs/21-0061.PDF
footprint MAXM-U10CN-1_N (SOP, 10-Leads, Body 3x3mm, Pitch 0.5mm, IPC Medium Density)
footprint MAXM-U10CN-1_L (SOP, 10-Leads, Body 3x3mm, Pitch 0.5mm, IPC High Density)
footprint MAXM-U10CN-1_M (SOP, 10-Leads, Body 3x3mm, Pitch 0.5mm, IPC Low Density)
pins: 1 PGND (power) "Power Ground. PGND is the power ground for the F\A\N\O\U\T\ power MOSFET switch.", 2 ~{WARN} (oc) "Temperature Warning Output. W\A\R\N\ is an open-drain output that goes low when the sensed junction temperature is 15degreesC higher than the fan trip threshold", 3 DXP "Current Source Positive Input. Connect to the anode of the external diodeconnected transistor. Do not leave DXP floating. Connect a 2200pF capacitor between DXP and DXN for noise filtering.", 4 DXN "Current Sink Negative Input. Connect to the cathode of the external diodeconnected transistor. DXN is internally biased to a diode voltage drop.", 5 ~{FORCEON} (in) "Fan-Control Input. Drive F\O\R\C\E\O\N\ high for normal operation. Drive F\O\R\C\E\O\N\ low to force fan on.", 6 ~{OT} (oc) "Overtemperature Output. O\T\ is an open-drain output that goes low when the sensed junction temperature is 30degC higher than the fan trip threshold.", 7 GND (power) "Ground", 8 VDD (power) "Positive Power Supply", 9 HYST (in) "Hysteresis Control Input. HYST is a three-level logic input for controlling the fandrive comparator’s hysteresis. Connect HYST to GND for 4degreesC hysteresis, to VDD for 12degreesC hysteresis, or leave floating for (See Datasheet)", 10 ~{FANOUT} (oc) "Fan-Drive Output. F\A\N\O\U\T\ is an open-drain power MOSFET that sinks up to 250mA current to turn on the fan when the sensed temperature exceeds the fan trip threshold or the fan is forced on by driving F\O\R\C\E\O\N\ low."

## MAX6670AUB70
designator U?
Remote Temperature Switch with Integrated Fan Driver, Bits Tempearture Resolution, -40 to 125 degC, 10-Pin SOP (U10CN-1); Generic Part Number: MAX6670; PartNumber: MAX6670AUB70; Fan Cntrl.: Linear; Fan Controller Functions: Temperature Switch/Temperature Comparator; Interface: Logic; DatasheetVersion: Rev. 2; PackageVersion: Rev. L, 07/2008; PackageReference: U10CN-1; PackageDescription: 10-Pin Micro-MAX, Thin Shrink Small-Outline (U10CN-1), Body 3 x 3 mm, Pitch 0.5 mm; Supplier 1: Mouser; Supplier Part Number 1: N/A; Mounting Technology: Surface Mount; Code_JEDEC: MO-187; ComponentLink1Description: Manufacturer URL; ComponentLink1URL: http://www.maximintegrated.com/; ComponentLink2Description: Datasheet; ComponentLink2URL: http://datasheets.maximintegrated.com/en/ds/MAX6668-MAX6670.pdf; ComponentLink3Description: Package Specification; ComponentLink3URL: http://pdfserv.maximintegrated.com/package_dwgs/21-0061.PDF
footprint MAXM-U10CN-1_N (SOP, 10-Leads, Body 3x3mm, Pitch 0.5mm, IPC Medium Density)
footprint MAXM-U10CN-1_L (SOP, 10-Leads, Body 3x3mm, Pitch 0.5mm, IPC High Density)
footprint MAXM-U10CN-1_M (SOP, 10-Leads, Body 3x3mm, Pitch 0.5mm, IPC Low Density)
pins: 1 PGND (power) "Power Ground. PGND is the power ground for the F\A\N\O\U\T\ power MOSFET switch.", 2 ~{WARN} (oc) "Temperature Warning Output. W\A\R\N\ is an open-drain output that goes low when the sensed junction temperature is 15degreesC higher than the fan trip threshold", 3 DXP "Current Source Positive Input. Connect to the anode of the external diodeconnected transistor. Do not leave DXP floating. Connect a 2200pF capacitor between DXP and DXN for noise filtering.", 4 DXN "Current Sink Negative Input. Connect to the cathode of the external diodeconnected transistor. DXN is internally biased to a diode voltage drop.", 5 ~{FORCEON} (in) "Fan-Control Input. Drive F\O\R\C\E\O\N\ high for normal operation. Drive F\O\R\C\E\O\N\ low to force fan on.", 6 ~{OT} (oc) "Overtemperature Output. O\T\ is an open-drain output that goes low when the sensed junction temperature is 30degC higher than the fan trip threshold.", 7 GND (power) "Ground", 8 VDD (power) "Positive Power Supply", 9 HYST (in) "Hysteresis Control Input. HYST is a three-level logic input for controlling the fandrive comparator’s hysteresis. Connect HYST to GND for 4degreesC hysteresis, to VDD for 12degreesC hysteresis, or leave floating for (See Datasheet)", 10 ~{FANOUT} (oc) "Fan-Drive Output. F\A\N\O\U\T\ is an open-drain power MOSFET that sinks up to 250mA current to turn on the fan when the sensed temperature exceeds the fan trip threshold or the fan is forced on by driving F\O\R\C\E\O\N\ low."

## MAX6670AUB70+
designator U?
Remote Temperature Switch with Integrated Fan Driver, Bits Tempearture Resolution, -40 to 125 degC, 10-Pin SOP (U10CN+1), Pb-Free; Generic Part Number: MAX6670; PartNumber: MAX6670AUB70+; Fan Cntrl.: Linear; Fan Controller Functions: Temperature Switch/Temperature Comparator; Interface: Logic; DatasheetVersion: Rev. 2; PackageVersion: Rev. L, 07/2008; PackageReference: U10CN+1; PackageDescription: 10-Pin Micro-MAX, Thin Shrink Small-Outline (U10CN+1), Body 3 x 3 mm, Pitch 0.5 mm; Supplier 1: Digi-Key; Supplier Part Number 1: MAX6670AUB70+-ND; Supplier 2: Mouser; Supplier Part Number 2: 700-MAX6670AUB70; Mounting Technology: Surface Mount; Code_JEDEC: MO-187; ComponentLink1Description: Manufacturer URL; ComponentLink1URL: http://www.maximintegrated.com/; ComponentLink2Description: Datasheet; ComponentLink2URL: http://datasheets.maximintegrated.com/en/ds/MAX6668-MAX6670.pdf; ComponentLink3Description: Package Specification; ComponentLink3URL: http://pdfserv.maximintegrated.com/package_dwgs/21-0061.PDF
footprint MAXM-U10CN+1_N (SOP, 10-Leads, Body 3x3mm, Pitch 0.5mm, IPC Medium Density)
footprint MAXM-U10CN+1_L (SOP, 10-Leads, Body 3x3mm, Pitch 0.5mm, IPC High Density)
footprint MAXM-U10CN+1_M (SOP, 10-Leads, Body 3x3mm, Pitch 0.5mm, IPC Low Density)
pins: 1 PGND (power) "Power Ground. PGND is the power ground for the F\A\N\O\U\T\ power MOSFET switch.", 2 ~{WARN} (oc) "Temperature Warning Output. W\A\R\N\ is an open-drain output that goes low when the sensed junction temperature is 15degreesC higher than the fan trip threshold", 3 DXP "Current Source Positive Input. Connect to the anode of the external diodeconnected transistor. Do not leave DXP floating. Connect a 2200pF capacitor between DXP and DXN for noise filtering.", 4 DXN "Current Sink Negative Input. Connect to the cathode of the external diodeconnected transistor. DXN is internally biased to a diode voltage drop.", 5 ~{FORCEON} (in) "Fan-Control Input. Drive F\O\R\C\E\O\N\ high for normal operation. Drive F\O\R\C\E\O\N\ low to force fan on.", 6 ~{OT} (oc) "Overtemperature Output. O\T\ is an open-drain output that goes low when the sensed junction temperature is 30degC higher than the fan trip threshold.", 7 GND (power) "Ground", 8 VDD (power) "Positive Power Supply", 9 HYST (in) "Hysteresis Control Input. HYST is a three-level logic input for controlling the fandrive comparator’s hysteresis. Connect HYST to GND for 4degreesC hysteresis, to VDD for 12degreesC hysteresis, or leave floating for (See Datasheet)", 10 ~{FANOUT} (oc) "Fan-Drive Output. F\A\N\O\U\T\ is an open-drain power MOSFET that sinks up to 250mA current to turn on the fan when the sensed temperature exceeds the fan trip threshold or the fan is forced on by driving F\O\R\C\E\O\N\ low."

## MAX6670AUB70+T
designator U?
Remote Temperature Switch with Integrated Fan Driver, Bits Tempearture Resolution, -40 to 125 degC, 10-Pin SOP (U10CN+1), Pb-Free, Tape and Reel; Generic Part Number: MAX6670; PartNumber: MAX6670AUB70+T; Fan Cntrl.: Linear; Fan Controller Functions: Temperature Switch/Temperature Comparator; Interface: Logic; DatasheetVersion: Rev. 2; PackageVersion: Rev. L, 07/2008; PackageReference: U10CN+1; PackageDescription: 10-Pin Micro-MAX, Thin Shrink Small-Outline (U10CN+1), Body 3 x 3 mm, Pitch 0.5 mm; Supplier 1: Digi-Key; Supplier Part Number 1: MAX6670AUB70+T-ND; Supplier 2: Mouser; Supplier Part Number 2: 700-MAX6670AUB70T; Packing: Tape and Reel; Mounting Technology: Surface Mount; Code_JEDEC: MO-187; ComponentLink1Description: Manufacturer URL; ComponentLink1URL: http://www.maximintegrated.com/; ComponentLink2Description: Datasheet; ComponentLink2URL: http://datasheets.maximintegrated.com/en/ds/MAX6668-MAX6670.pdf; ComponentLink3Description: Package Specification; ComponentLink3URL: http://pdfserv.maximintegrated.com/package_dwgs/21-0061.PDF
footprint MAXM-U10CN+1_N (SOP, 10-Leads, Body 3x3mm, Pitch 0.5mm, IPC Medium Density)
footprint MAXM-U10CN+1_L (SOP, 10-Leads, Body 3x3mm, Pitch 0.5mm, IPC High Density)
footprint MAXM-U10CN+1_M (SOP, 10-Leads, Body 3x3mm, Pitch 0.5mm, IPC Low Density)
pins: 1 PGND (power) "Power Ground. PGND is the power ground for the F\A\N\O\U\T\ power MOSFET switch.", 2 ~{WARN} (oc) "Temperature Warning Output. W\A\R\N\ is an open-drain output that goes low when the sensed junction temperature is 15degreesC higher than the fan trip threshold", 3 DXP "Current Source Positive Input. Connect to the anode of the external diodeconnected transistor. Do not leave DXP floating. Connect a 2200pF capacitor between DXP and DXN for noise filtering.", 4 DXN "Current Sink Negative Input. Connect to the cathode of the external diodeconnected transistor. DXN is internally biased to a diode voltage drop.", 5 ~{FORCEON} (in) "Fan-Control Input. Drive F\O\R\C\E\O\N\ high for normal operation. Drive F\O\R\C\E\O\N\ low to force fan on.", 6 ~{OT} (oc) "Overtemperature Output. O\T\ is an open-drain output that goes low when the sensed junction temperature is 30degC higher than the fan trip threshold.", 7 GND (power) "Ground", 8 VDD (power) "Positive Power Supply", 9 HYST (in) "Hysteresis Control Input. HYST is a three-level logic input for controlling the fandrive comparator’s hysteresis. Connect HYST to GND for 4degreesC hysteresis, to VDD for 12degreesC hysteresis, or leave floating for (See Datasheet)", 10 ~{FANOUT} (oc) "Fan-Drive Output. F\A\N\O\U\T\ is an open-drain power MOSFET that sinks up to 250mA current to turn on the fan when the sensed temperature exceeds the fan trip threshold or the fan is forced on by driving F\O\R\C\E\O\N\ low."

## MAX6670AUB70-T
designator U?
Remote Temperature Switch with Integrated Fan Driver, Bits Tempearture Resolution, -40 to 125 degC, 10-Pin SOP (U10CN-1), Tape and Reel; Generic Part Number: MAX6670; PartNumber: MAX6670AUB70-T; Fan Cntrl.: Linear; Fan Controller Functions: Temperature Switch/Temperature Comparator; Interface: Logic; DatasheetVersion: Rev. 2; PackageVersion: Rev. L, 07/2008; PackageReference: U10CN-1; PackageDescription: 10-Pin Micro-MAX, Thin Shrink Small-Outline (U10CN-1), Body 3 x 3 mm, Pitch 0.5 mm; Supplier 1: Mouser; Supplier Part Number 1: N/A; Packing: Tape and Reel; Mounting Technology: Surface Mount; Code_JEDEC: MO-187; ComponentLink1Description: Manufacturer URL; ComponentLink1URL: http://www.maximintegrated.com/; ComponentLink2Description: Datasheet; ComponentLink2URL: http://datasheets.maximintegrated.com/en/ds/MAX6668-MAX6670.pdf; ComponentLink3Description: Package Specification; ComponentLink3URL: http://pdfserv.maximintegrated.com/package_dwgs/21-0061.PDF
footprint MAXM-U10CN-1_N (SOP, 10-Leads, Body 3x3mm, Pitch 0.5mm, IPC Medium Density)
footprint MAXM-U10CN-1_L (SOP, 10-Leads, Body 3x3mm, Pitch 0.5mm, IPC High Density)
footprint MAXM-U10CN-1_M (SOP, 10-Leads, Body 3x3mm, Pitch 0.5mm, IPC Low Density)
pins: 1 PGND (power) "Power Ground. PGND is the power ground for the F\A\N\O\U\T\ power MOSFET switch.", 2 ~{WARN} (oc) "Temperature Warning Output. W\A\R\N\ is an open-drain output that goes low when the sensed junction temperature is 15degreesC higher than the fan trip threshold", 3 DXP "Current Source Positive Input. Connect to the anode of the external diodeconnected transistor. Do not leave DXP floating. Connect a 2200pF capacitor between DXP and DXN for noise filtering.", 4 DXN "Current Sink Negative Input. Connect to the cathode of the external diodeconnected transistor. DXN is internally biased to a diode voltage drop.", 5 ~{FORCEON} (in) "Fan-Control Input. Drive F\O\R\C\E\O\N\ high for normal operation. Drive F\O\R\C\E\O\N\ low to force fan on.", 6 ~{OT} (oc) "Overtemperature Output. O\T\ is an open-drain output that goes low when the sensed junction temperature is 30degC higher than the fan trip threshold.", 7 GND (power) "Ground", 8 VDD (power) "Positive Power Supply", 9 HYST (in) "Hysteresis Control Input. HYST is a three-level logic input for controlling the fandrive comparator’s hysteresis. Connect HYST to GND for 4degreesC hysteresis, to VDD for 12degreesC hysteresis, or leave floating for (See Datasheet)", 10 ~{FANOUT} (oc) "Fan-Drive Output. F\A\N\O\U\T\ is an open-drain power MOSFET that sinks up to 250mA current to turn on the fan when the sensed temperature exceeds the fan trip threshold or the fan is forced on by driving F\O\R\C\E\O\N\ low."

## MAX6672AXK+
designator U?
PWM-Output Temperature Sensor with an Open Drain Output, -40 to 125 degC, 5-Pin SOT23 (X5+1), Pb-Free; Generic Part Number: MAX6672; PartNumber: MAX6672AXK+; Interface: PWM; Parasite Pwr.: No; DatasheetVersion: Rev. 0; PackageVersion: Rev. F, 06/2011; PackageReference: X5+1; PackageDescription: 5-Pin SC70 Transistor Package (X5+1), Body 2 x 1.25 mm, Pitch 0.65 mm; Supplier 1: Mouser; Supplier Part Number 1: N/A; Mounting Technology: Surface Mount; Code_JEDEC: MO-203; ComponentLink1Description: Manufacturer URL; ComponentLink1URL: http://www.maximintegrated.com/; ComponentLink2Description: Datasheet; ComponentLink2URL: http://datasheets.maximintegrated.com/en/ds/MAX6672-MAX6673.pdf; ComponentLink3Description: Package Specification; ComponentLink3URL: http://pdfserv.maximintegrated.com/package_dwgs/21-0076.PDF
footprint MAXM-X5+1_N (SOT23, 5-Leads, Body 2x1.25mm, Pitch 0.65mm, IPC Medium Density)
footprint MAXM-X5+1_L (SOT23, 5-Leads, Body 2x1.25mm, Pitch 0.65mm, IPC High Density)
footprint MAXM-X5+1_M (SOT23, 5-Leads, Body 2x1.25mm, Pitch 0.65mm, IPC Low Density)
pins: 1 DOUT (oc) "Digital Output Pin. PWM output, open-drain output (MAX6672)", 2 NC "No Connection. Not internally connected", 3 GND (power) "Pin 3 and Pin 4 must be tied together and connected to ground", 4 GND (power) "Pin 3 and Pin 4 must be tied together and connected to ground", 5 VCC (power) "Positive Supply. Bypass with a 0.1uF capacitor to GND."